# EAGLE library part MKL02Z32VFG4 (library OBC)
Kinetis KL02 32 KB Flash 48 MHz Cortex-M0+ Based Microcontroller
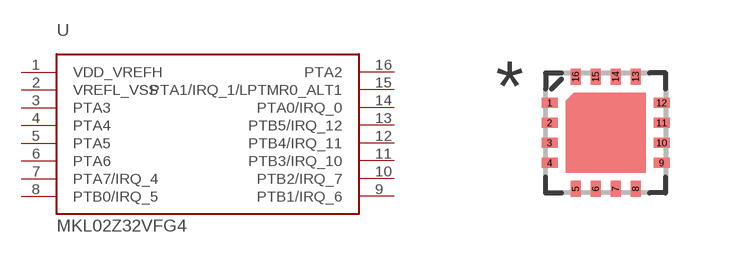
[diagram p1: symbol with the pads of QFN16; footprint QFN16]

Designator prefix -

## MKL02Z32VFG4SMD  [QFN16]
1  VDD_VREFH
2  VREFL_VSS
3  PTA3
4  PTA4
5  PTA5
6  PTA6
7  PTA7/IRQ_4
8  PTB0/IRQ_5
9  PTB1/IRQ_6
10  PTB2/IRQ_7
11  PTB3/IRQ_10
12  PTB4/IRQ_11
13  PTB5/IRQ_12
14  PTA0/IRQ_0
15  PTA1/IRQ_1/LPTMR0_ALT1
16  PTA2

## Footprint QFN16 (pad centres in mm)
smd 0.4 x 0.25: 1 -1.4,0.75; 2 -1.4,0.25; 3 -1.4,-0.25; 4 -1.4,-0.75; 9 1.4,-0.75; 10 1.4,-0.25; 11 1.4,0.25; 12 1.4,0.75
smd 0.25 x 0.4: 5 -0.75,-1.4; 6 -0.25,-1.4; 7 0.25,-1.4; 8 0.75,-1.4; 13 0.75,1.4; 14 0.25,1.4; 15 -0.25,1.4; 16 -0.75,1.4